# EAGLE library part ISP1761 (library m-pad)
Philips Semiconductor's ISP1761 Hi-Speed Universal Serial Bus On-The-Go controller Description: The ISP1761 is a single-chip Hi-Speed Universal Serial Bus (USB) On-The-Go (OTG) Controller integrated with the Advanced Philips Slave Host Controller and the Philips ISP1582 Peripheral Controller. The Hi-Speed USB Host Controller and Peripheral Controller comply to Universal Serial Bus Specification Rev. 2.0 and support data transfer speeds of up to 480 Mbit/s. The Enhanced Host Controller Interface (EHCI) core implemented in the Host Controller is adapted from Enhanced Host Controller Interface Specification for Universal Serial Bus Rev. 1.0. The OTG Controller is compliant with On-The-Go Supplement to the USB Specification Rev. 1.0a. The ISP1761 has three USB ports. Port 1 can be configured to function as a downstream port, an upstream port or an OTG port; ports 2 and 3 are always configured as downstream ports. The OTG port can switch its role from host to peripheral, and peripheral to host. The OTG port can become a host through the Host Negotiation Protocol (HNP) as specified in the OTG supplement. Features: Compliant with Universal Serial Bus Specification Rev. 2.0; supporting data transfer at high-speed (480 Mbit/s), full-speed (12 Mbit/s) and low-speed (1.5 Mbit/s) Integrated Transaction Translator (TT) for Original USB (full-speed and low-speed) peripheral support Three USB ports that support three operational modes: - Mode 1: Port 1 is an OTG Controller port, and ports 2 and 3 are Host Controller ports - Mode 2: Ports 1, 2 and 3 are Host Controller ports - Mode 3: Port 1 is a Peripheral Controller port, and ports 2 and 3 are Host Controller ports Supports OTG Host Negotiation Protocol (HNP) and Session Request Protocol (SRP) Multitasking support with Virtual Segmentation feature (up to four banks) High-speed memory controller (variable latency and SRAM external interface) Directly addressable memory architecture Generic processor interface to most CPUs, such as Hitachi SH-3 and SH-4, Philips XA, Intel StrongARM, NEC and Toshiba MIPS, Motorola DragonBall and PowerPC Reduced Instruction Set Computer (RISC) processors Configurable 32-bit and 16-bit external memory data bus Supports Programmed I/O (PIO) and Direct Memory Access (DMA) Slave DMA implementation on CPU interface for reducing the host system?s CPU load ..... Applications: The ISP1761 can be used to implement a dual-role USB device in any application, USB host or USB peripheral, depending on the cable connection. If the dual-role device is connected to a typical USB peripheral, it behaves like a typical USB host. The dual-role device can also be connected to a PC or any other USB host and behave like a typical USB peripheral. Mobile phone to/from: Mobile phone: exchange contact information Digital still camera: e-mail pictures or upload pictures to the web MP3 player: upload/download/broadcast music Mass storage: upload/download files Scanner: scan business cards Digital still camera to/from: Digital still camera: exchange pictures Mobile phone: e-mail pictures, upload pictures to the web Printer: print pictures Mass storage: store pictures Printer to/from: Digital still camera: print pictures Scanner: print scanned image Mass storage: print files stored in a device MP3 player to/from: MP3 player: exchange songs Mass storage: upload/download songs Oscilloscope to/from: Printer: print screen image Personal digital assistant to/from: Personal digital assistant: exchange files Printer: print files Mobile phone: upload/download files MP3 player: upload/download songs Scanner: scan pictures Mass storage: upload/download files Global Positioning System (GPS): obtain directions, mapping information Digital still camera: upload pictures Oscilloscope: configure oscilloscope Please send any comments to: messi@users.sourceforge.net
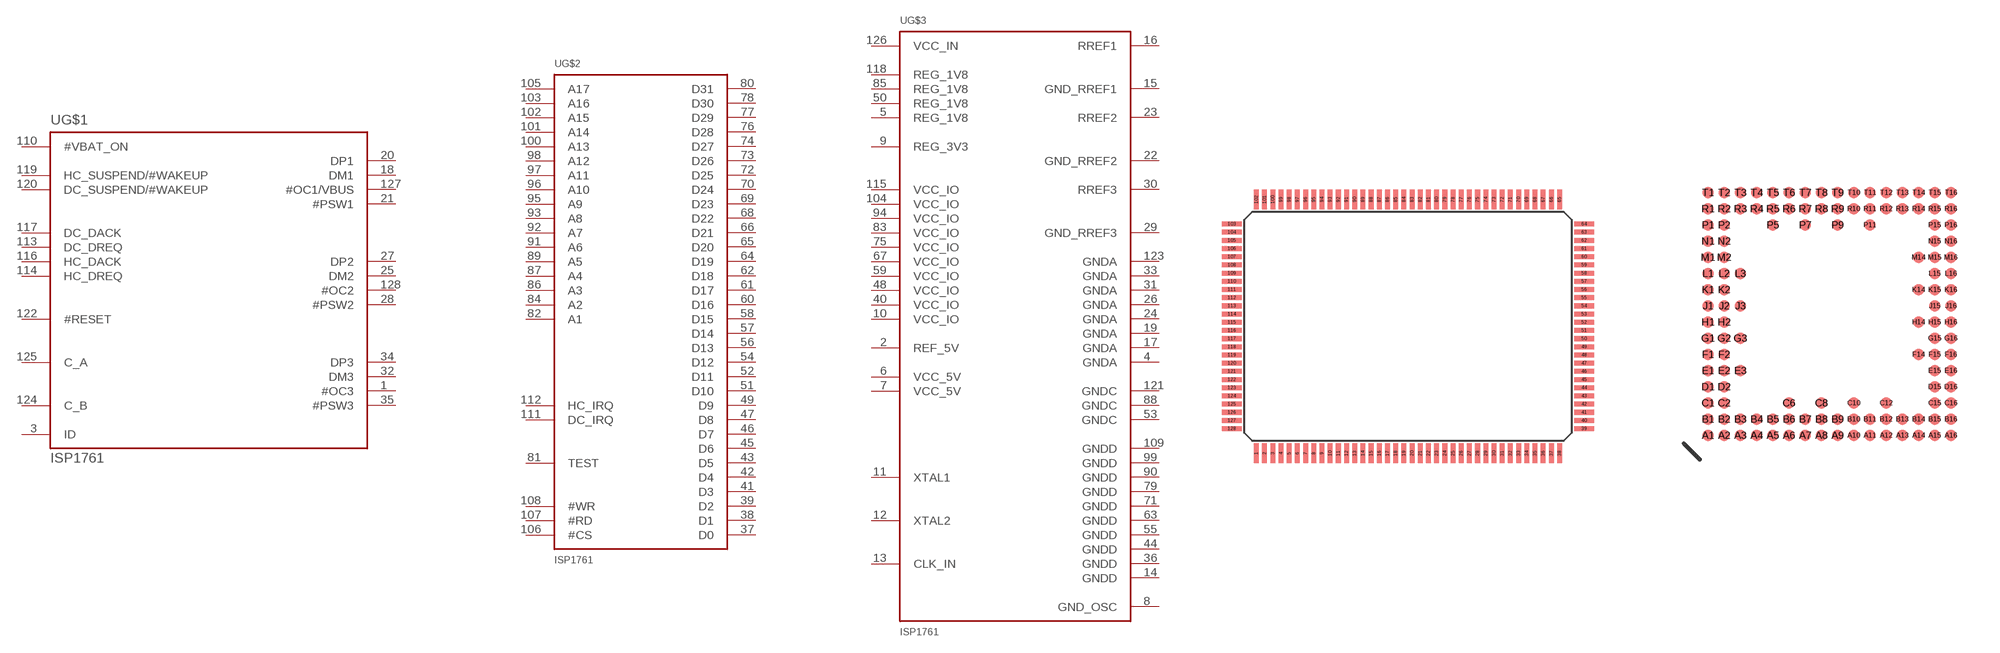
[diagram p83: symbol with the pads of LQFP128; footprints LQFP128, TFBGA128]

Designator prefix U; gates G$1=ISP1761_CTRL G$2=ISP1761_MEM G$3=ISP1761_PWR

## ISP1761LQFP  [LQFP128]
1  G$1:#OC3  in
2  G$3:REF_5V  pwr
3  G$1:ID  in
4  G$3:GNDA  pwr
5  G$3:REG_1V8  pwr
6  G$3:VCC_5V  pwr
7  G$3:VCC_5V  pwr
8  G$3:GND_OSC  pwr
9  G$3:REG_3V3  pwr
10  G$3:VCC_IO  pwr
11  G$3:XTAL1  pwr
12  G$3:XTAL2  pwr
13  G$3:CLK_IN  pwr
14  G$3:GNDD  pwr
15  G$3:GND_RREF1  pwr
16  G$3:RREF1  pwr
17  G$3:GNDA  pwr
18  G$1:DM1
19  G$3:GNDA  pwr
20  G$1:DP1
21  G$1:#PSW1  out
22  G$3:GND_RREF2  pwr
23  G$3:RREF2  pwr
24  G$3:GNDA  pwr
25  G$1:DM2
26  G$3:GNDA  pwr
27  G$1:DP2
28  G$1:#PSW2  out
29  G$3:GND_RREF3  pwr
30  G$3:RREF3  pwr
31  G$3:GNDA  pwr
32  G$1:DM3
33  G$3:GNDA  pwr
34  G$1:DP3
35  G$1:#PSW3  out
36  G$3:GNDD  pwr
37  G$2:D0
38  G$2:D1
39  G$2:D2
40  G$3:VCC_IO  pwr
41  G$2:D3
42  G$2:D4
43  G$2:D5
44  G$3:GNDD  pwr
45  G$2:D6
46  G$2:D7
47  G$2:D8
48  G$3:VCC_IO  pwr
49  G$2:D9
50  G$3:REG_1V8  pwr
51  G$2:D10
52  G$2:D11
53  G$3:GNDC  pwr
54  G$2:D12
55  G$3:GNDD  pwr
56  G$2:D13
57  G$2:D14
58  G$2:D15
59  G$3:VCC_IO  pwr
60  G$2:D16
61  G$2:D17
62  G$2:D18
63  G$3:GNDD  pwr
64  G$2:D19
65  G$2:D20
66  G$2:D21
67  G$3:VCC_IO  pwr
68  G$2:D22
69  G$2:D23
70  G$2:D24
71  G$3:GNDD  pwr
72  G$2:D25
73  G$2:D26
74  G$2:D27
75  G$3:VCC_IO  pwr
76  G$2:D28
77  G$2:D29
78  G$2:D30
79  G$3:GNDD  pwr
80  G$2:D31
81  G$2:TEST  pas
82  G$2:A1  in
83  G$3:VCC_IO  pwr
84  G$2:A2  in
85  G$3:REG_1V8  pwr
86  G$2:A3  in
87  G$2:A4  in
88  G$3:GNDC  pwr
89  G$2:A5  in
90  G$3:GNDD  pwr
91  G$2:A6  in
92  G$2:A7  in
93  G$2:A8  in
94  G$3:VCC_IO  pwr
95  G$2:A9  in
96  G$2:A10  in
97  G$2:A11  in
98  G$2:A12  in
99  G$3:GNDD  pwr
100  G$2:A13  in
101  G$2:A14  in
102  G$2:A15  in
103  G$2:A16  in
104  G$3:VCC_IO  pwr
105  G$2:A17  in
106  G$2:#CS  in
107  G$2:#RD  in
108  G$2:#WR  in
109  G$3:GNDD  pwr
110  G$1:#VBAT_ON  out
111  G$2:DC_IRQ  out
112  G$2:HC_IRQ  out
113  G$1:DC_DREQ  out
114  G$1:HC_DREQ  out
115  G$3:VCC_IO  pwr
116  G$1:HC_DACK  in
117  G$1:DC_DACK  in
118  G$3:REG_1V8  pwr
119  G$1:HC_SUSPEND/#WAKEUP
120  G$1:DC_SUSPEND/#WAKEUP
121  G$3:GNDC  pwr
122  G$1:#RESET  in
123  G$3:GNDA  pwr
124  G$1:C_B
125  G$1:C_A
126  G$3:VCC_IN  pwr
127  G$1:#OC1/VBUS  in
128  G$1:#OC2  in

## ISP1761TFBGA  [TFBGA128]
A1  G$3:GNDA  pwr
A2  G$3:REF_5V  pwr
A3  G$1:#OC2  in
A4  G$3:VCC_IN  pwr
A5  G$1:C_B
A6  G$3:GNDC  pwr
A7  G$1:HC_SUSPEND/#WAKEUP
A8  G$1:HC_DACK  in
A9  G$1:DC_DREQ  out
A10  G$2:DC_IRQ  out
A11  G$3:GNDD  pwr
A12  G$2:#CS  in
A13  G$2:A16  in
A14  G$2:A15  in
A15  G$2:A13  in
A16  G$3:GNDD  pwr
B1  G$3:REG_1V8  pwr
B2  G$1:ID  in
B3  G$1:#OC1/VBUS  in
B4  G$1:C_A
B5  G$3:GNDA  pwr
B6  G$1:#RESET  in
B7  G$3:REG_1V8  pwr
B8  G$1:DC_DACK  in
B9  G$1:HC_DREQ  out
B10  G$2:HC_IRQ  out
B11  G$2:#WR  in
B12  G$2:#RD  in
B13  G$3:VCC_IO  pwr
B14  G$2:A14  in
B15  G$2:A12  in
B16  G$2:A11  in
C1  G$3:VCC_5V  pwr
C2  G$1:#OC3  in
C6  G$1:DC_SUSPEND/#WAKEUP
C8  G$3:VCC_IO  pwr
C10  G$1:#VBAT_ON  out
C12  G$2:A17  in
C15  G$2:A10  in
C16  G$2:A9  in
D1  G$3:REG_3V3  pwr
D2  G$3:VCC_5V  pwr
D15  G$3:VCC_IO  pwr
D16  G$2:A8  in
E1  G$3:XTAL1  pwr
E2  G$3:VCC_IO  pwr
E3  G$3:GND_OSC  pwr
E15  G$2:A7  in
E16  G$3:GNDD  pwr
F1  G$3:CLK_IN  pwr
F2  G$3:XTAL2  pwr
F14  G$2:A6  in
F15  G$2:A5  in
F16  G$2:A4  in
G1  G$3:RREF1  pwr
G2  G$3:GND_RREF1  pwr
G3  G$3:GNDD  pwr
G15  G$3:GNDC  pwr
G16  G$3:REG_1V8  pwr
H1  G$1:DM1
H2  G$3:GNDA  pwr
H14  G$2:A3  in
H15  G$2:A2  in
H16  G$2:A1  in
J1  G$1:#PSW1  out
J2  G$1:DP1
J3  G$3:GNDA  pwr
J15  G$3:VCC_IO  pwr
J16  G$2:TEST  pas
K1  G$3:RREF2  pwr
K2  G$3:GND_RREF2  pwr
K14  G$2:D31
K15  G$3:GNDD  pwr
K16  G$2:D30
L1  G$1:DM2
L2  G$3:GNDA  pwr
L3  G$3:GNDA  pwr
L15  G$2:D29
L16  G$2:D28
M1  G$1:#PSW2  out
M2  G$1:DP2
M14  G$3:VCC_IO  pwr
M15  G$2:D26
M16  G$2:D27
N1  G$3:RREF3  pwr
N2  G$3:GND_RREF3  pwr
N15  G$2:D25
N16  G$3:GNDD  pwr
P1  G$1:DM3
P2  G$3:GNDA  pwr
P5  G$2:D3
P7  G$2:D7
P9  G$2:D10
P11  G$2:D13
P15  G$3:VCC_IO  pwr
P16  G$2:D24
R1  G$1:DP3
R2  G$3:GNDA  pwr
R3  G$2:D0
R4  G$2:D2
R5  G$2:D5
R6  G$2:D6
R7  G$3:VCC_IO  pwr
R8  G$3:REG_1V8  pwr
R9  G$3:GNDC  pwr
R10  G$3:GNDD  pwr
R11  G$2:D15
R12  G$2:D16
R13  G$2:D18
R14  G$3:GNDD  pwr
R15  G$2:D21
R16  G$2:D23
T1  G$1:#PSW3  out
T2  G$3:GNDD  pwr
T3  G$2:D1
T4  G$3:VCC_IO  pwr
T5  G$2:D4
T6  G$3:GNDD  pwr
T7  G$2:D8
T8  G$2:D9
T9  G$2:D11
T10  G$2:D12
T11  G$2:D14
T12  G$3:VCC_IO  pwr
T13  G$2:D17
T14  G$2:D19
T15  G$2:D20
T16  G$2:D22

## Footprint LQFP128 (pad centres in mm)
smd 0.3 x 1.2: 1 -9.25,-7.75; 2 -8.75,-7.75; 3 -8.25,-7.75; 4 -7.75,-7.75; 5 -7.25,-7.75; 6 -6.75,-7.75; 7 -6.25,-7.75; 8 -5.75,-7.75; 9 -5.25,-7.75; 10 -4.75,-7.75; 11 -4.25,-7.75; 12 -3.75,-7.75; 13 -3.25,-7.75; 14 -2.75,-7.75; 15 -2.25,-7.75; 16 -1.75,-7.75; 17 -1.25,-7.75; 18 -0.75,-7.75; 19 -0.25,-7.75; 20 0.25,-7.75; 21 0.75,-7.75; 22 1.25,-7.75; 23 1.75,-7.75; 24 2.25,-7.75; 25 2.75,-7.75; 26 3.25,-7.75; 27 3.75,-7.75; 28 4.25,-7.75; 29 4.75,-7.75; 30 5.25,-7.75; 31 5.75,-7.75; 32 6.25,-7.75; 33 6.75,-7.75; 34 7.25,-7.75; 35 7.75,-7.75; 36 8.25,-7.75; 37 8.75,-7.75; 38 9.25,-7.75; 65 9.25,7.75; 66 8.75,7.75; 67 8.25,7.75; 68 7.75,7.75; 69 7.25,7.75; 70 6.75,7.75; 71 6.25,7.75; 72 5.75,7.75; 73 5.25,7.75; 74 4.75,7.75; 75 4.25,7.75; 76 3.75,7.75; 77 3.25,7.75; 78 2.75,7.75; 79 2.25,7.75; 80 1.75,7.75; 81 1.25,7.75; 82 0.75,7.75; 83 0.25,7.75; 84 -0.25,7.75; 85 -0.75,7.75; 86 -1.25,7.75; 87 -1.75,7.75; 88 -2.25,7.75; 89 -2.75,7.75; 90 -3.25,7.75; 91 -3.75,7.75; 92 -4.25,7.75; 93 -4.75,7.75; 94 -5.25,7.75; 95 -5.75,7.75; 96 -6.25,7.75; 97 -6.75,7.75; 98 -7.25,7.75; 99 -7.75,7.75; 100 -8.25,7.75; 101 -8.75,7.75; 102 -9.25,7.75
smd 1.2 x 0.3: 39 10.75,-6.25; 40 10.75,-5.75; 41 10.75,-5.25; 42 10.75,-4.75; 43 10.75,-4.25; 44 10.75,-3.75; 45 10.75,-3.25; 46 10.75,-2.75; 47 10.75,-2.25; 48 10.75,-1.75; 49 10.75,-1.25; 50 10.75,-0.75; 51 10.75,-0.25; 52 10.75,0.25; 53 10.75,0.75; 54 10.75,1.25; 55 10.75,1.75; 56 10.75,2.25; 57 10.75,2.75; 58 10.75,3.25; 59 10.75,3.75; 60 10.75,4.25; 61 10.75,4.75; 62 10.75,5.25; 63 10.75,5.75; 64 10.75,6.25; 103 -10.75,6.25; 104 -10.75,5.75; 105 -10.75,5.25; 106 -10.75,4.75; 107 -10.75,4.25; 108 -10.75,3.75; 109 -10.75,3.25; 110 -10.75,2.75; 111 -10.75,2.25; 112 -10.75,1.75; 113 -10.75,1.25; 114 -10.75,0.75; 115 -10.75,0.25; 116 -10.75,-0.25; 117 -10.75,-0.75; 118 -10.75,-1.25; 119 -10.75,-1.75; 120 -10.75,-2.25; 121 -10.75,-2.75; 122 -10.75,-3.25; 123 -10.75,-3.75; 124 -10.75,-4.25; 125 -10.75,-4.75; 126 -10.75,-5.25; 127 -10.75,-5.75; 128 -10.75,-6.25

## Footprint TFBGA128 (pad centres in mm)
smd 0.35 x 0.35: A1 -3.75,-3.75; A2 -3.25,-3.75; A3 -2.75,-3.75; A4 -2.25,-3.75; A5 -1.75,-3.75; A6 -1.25,-3.75; A7 -0.75,-3.75; A8 -0.25,-3.75; A9 0.25,-3.75; A10 0.75,-3.75; A11 1.25,-3.75; A12 1.75,-3.75; A13 2.25,-3.75; A14 2.75,-3.75; A15 3.25,-3.75; A16 3.75,-3.75; B1 -3.75,-3.25; B2 -3.25,-3.25; B3 -2.75,-3.25; B4 -2.25,-3.25; B5 -1.75,-3.25; B6 -1.25,-3.25; B7 -0.75,-3.25; B8 -0.25,-3.25; B9 0.25,-3.25; B10 0.75,-3.25; B11 1.25,-3.25; B12 1.75,-3.25; B13 2.25,-3.25; B14 2.75,-3.25; B15 3.25,-3.25; B16 3.75,-3.25; C1 -3.75,-2.75; C2 -3.25,-2.75; C6 -1.25,-2.75; C8 -0.25,-2.75; C10 0.75,-2.75; C12 1.75,-2.75; C15 3.25,-2.75; C16 3.75,-2.75; D1 -3.75,-2.25; D2 -3.25,-2.25; D15 3.25,-2.25; D16 3.75,-2.25; E1 -3.75,-1.75; E2 -3.25,-1.75; E3 -2.75,-1.75; E15 3.25,-1.75; E16 3.75,-1.75; F1 -3.75,-1.25; F2 -3.25,-1.25; F14 2.75,-1.25; F15 3.25,-1.25; F16 3.75,-1.25; G1 -3.75,-0.75; G2 -3.25,-0.75; G3 -2.75,-0.75; G15 3.25,-0.75; G16 3.75,-0.75; H1 -3.75,-0.25; H2 -3.25,-0.25; H14 2.75,-0.25; H15 3.25,-0.25; H16 3.75,-0.25; J1 -3.75,0.25; J2 -3.25,0.25; J3 -2.75,0.25; J15 3.25,0.25; J16 3.75,0.25; K1 -3.75,0.75; K2 -3.25,0.75; K14 2.75,0.75; K15 3.25,0.75; K16 3.75,0.75; L1 -3.75,1.25; L2 -3.25,1.25; L3 -2.75,1.25; L15 3.25,1.25; L16 3.75,1.25; M1 -3.75,1.75; M2 -3.25,1.75; M14 2.75,1.75; M15 3.25,1.75; M16 3.75,1.75; N1 -3.75,2.25; N2 -3.25,2.25; N15 3.25,2.25; N16 3.75,2.25; P1 -3.75,2.75; P2 -3.25,2.75; P5 -1.75,2.75; P7 -0.75,2.75; P9 0.25,2.75; P11 1.25,2.75; P15 3.25,2.75; P16 3.75,2.75; R1 -3.75,3.25; R2 -3.25,3.25; R3 -2.75,3.25; R4 -2.25,3.25; R5 -1.75,3.25; R6 -1.25,3.25; R7 -0.75,3.25; R8 -0.25,3.25; R9 0.25,3.25; R10 0.75,3.25; R11 1.25,3.25; R12 1.75,3.25; R13 2.25,3.25; R14 2.75,3.25; R15 3.25,3.25; R16 3.75,3.25; T1 -3.75,3.75; T2 -3.25,3.75; T3 -2.75,3.75; T4 -2.25,3.75; T5 -1.75,3.75; T6 -1.25,3.75; T7 -0.75,3.75; T8 -0.25,3.75; T9 0.25,3.75; T10 0.75,3.75; T11 1.25,3.75; T12 1.75,3.75; T13 2.25,3.75; T14 2.75,3.75; T15 3.25,3.75; T16 3.75,3.75